# Altium schematic symbol library Buffers_and_Line_Drivers.SchLib: 4 symbols
Pins are listed as number, name and electrical type; pins without a type are passive.

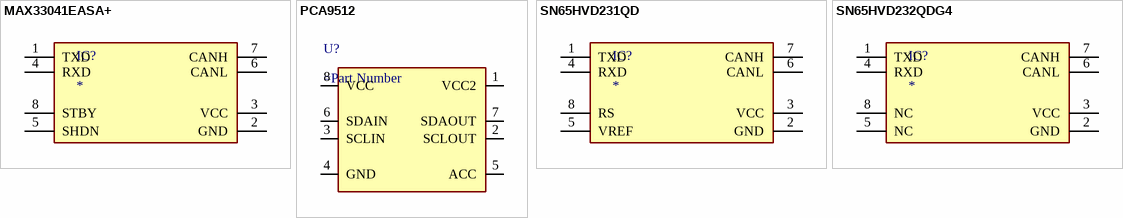
[diagram p0: symbols MAX33041EASA+ to SN65HVD232QDG4]

## MAX33041EASA+
designator IC?
pins: 1 TXD, 2 GND, 3 VCC, 4 RXD, 5 SHDN, 6 CANL, 7 CANH, 8 STBY

## PCA9512
designator U?
pins: 1 VCC2, 2 SCLOUT, 3 SCLIN, 4 GND, 5 ACC, 6 SDAIN, 7 SDAOUT, 8 VCC

## SN65HVD231QD
designator IC?
pins: 1 TXD, 2 GND, 3 VCC, 4 RXD, 5 VREF, 6 CANL, 7 CANH, 8 RS

## SN65HVD232QDG4
designator IC?
pins: 1 TXD, 2 GND, 3 VCC, 4 RXD, 5 NC, 6 CANL, 7 CANH, 8 NC